# Altium footprint library Connector_FFC-FPC.PcbLib: 184 footprints (part 4 of 12)
Each footprint in its own frame and in the unit in brackets; x right, y up, seen from the top. Pads: shape width x height; smd on the part's side, far side on the other; paste and mask are expansions set on the pad; w line width, h text height; cw(c..) or ccw(c..) is an arc to the next point about the centre after c.
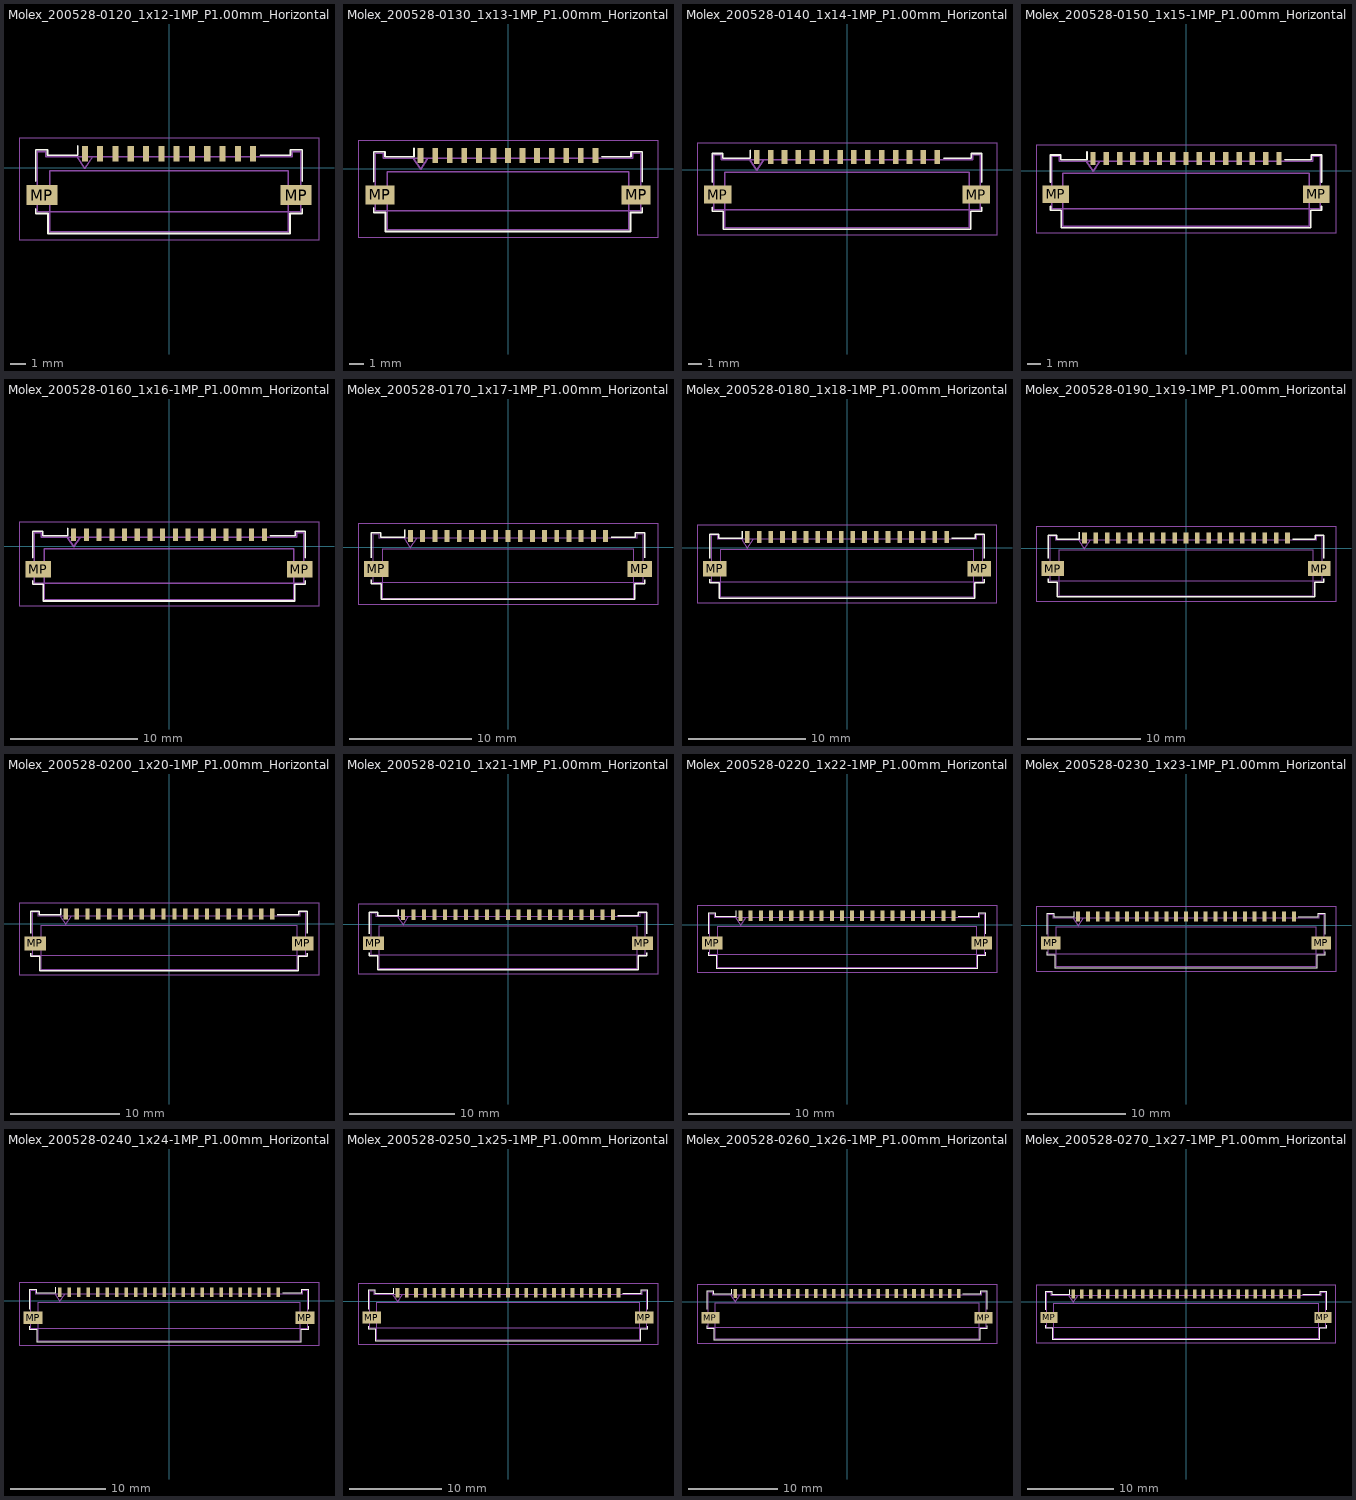
[diagram p3: the footprints below, top view; thin cyan lines are the x and y axes]

## Molex_200528-0120_1x12-1MP_P1.00mm_Horizontal [mm]
pads (14):
  rect 0.4x1 smd: 1(-5.5,0.91) 2(-4.5,0.91) 3(-3.5,0.91) 4(-2.5,0.91) 5(-1.5,0.91) 6(-0.5,0.91) 7(0.5,0.91) 8(1.5,0.91) 9(2.5,0.91) 10(3.5,0.91) 11(4.5,0.91) 12(5.5,0.91)
  rect 2x1.3 smd: MP(-8.3,-1.79) MP(8.3,-1.79)
F.SilkS:
  lines w0.12: -8.71,-2.7 -8.71,-3 -7.91,-3 -7.91,-4.3 7.91,-4.3 7.91,-3 8.71,-3 8.71,-2.7 ; -8.71,-0.88 -8.71,1.17 -7.94,1.17 -7.94,0.82 -5.96,0.82 -5.96,1.41 ; 5.96,0.82 7.94,0.82 7.94,1.17 8.71,1.17 8.71,-0.88
F.CrtYd:
  lines w0.05: -9.8,-4.69 -9.8,1.91 9.8,1.91 9.8,-4.69 -9.8,-4.69
F.Fab:
  lines w0.1: -6,0.71 -5.5,-0.04 -5,0.71 ; -8.6,-2.89 8.6,-2.89 8.6,1.06 8.05,1.06 8.05,0.71 -8.05,0.71 -8.05,1.06 -8.6,1.06 -8.6,-2.89 ; -7.8,-4.19 7.8,-4.19 7.8,-0.19 -7.8,-0.19 -7.8,-4.19
  text "'.Designator'" at -4.047,-2.23 h1

## Molex_200528-0130_1x13-1MP_P1.00mm_Horizontal [mm]
pads (15):
  rect 0.4x1 smd: 1(-6,0.91) 2(-5,0.91) 3(-4,0.91) 4(-3,0.91) 5(-2,0.91) 6(-1,0.91) 7(0,0.91) 8(1,0.91) 9(2,0.91) 10(3,0.91) 11(4,0.91) 12(5,0.91) 13(6,0.91)
  rect 2x1.3 smd: MP(-8.8,-1.79) MP(8.8,-1.79)
F.SilkS:
  lines w0.12: -9.21,-2.7 -9.21,-3 -8.41,-3 -8.41,-4.3 8.41,-4.3 8.41,-3 9.21,-3 9.21,-2.7 ; -9.21,-0.88 -9.21,1.17 -8.44,1.17 -8.44,0.82 -6.46,0.82 -6.46,1.41 ; 6.46,0.82 8.44,0.82 8.44,1.17 9.21,1.17 9.21,-0.88
F.CrtYd:
  lines w0.05: -10.3,-4.69 -10.3,1.91 10.3,1.91 10.3,-4.69 -10.3,-4.69
F.Fab:
  lines w0.1: -6.5,0.71 -6,-0.04 -5.5,0.71 ; -9.1,-2.89 -9.1,1.06 -8.55,1.06 -8.55,0.71 8.55,0.71 8.55,1.06 9.1,1.06 9.1,-2.89 -9.1,-2.89 ; -8.3,-4.19 -8.3,-0.19 8.3,-0.19 8.3,-4.19 -8.3,-4.19
  text "'.Designator'" at -4.047,-2.23 h1

## Molex_200528-0140_1x14-1MP_P1.00mm_Horizontal [mm]
pads (16):
  rect 0.4x1 smd: 1(-6.5,0.91) 2(-5.5,0.91) 3(-4.5,0.91) 4(-3.5,0.91) 5(-2.5,0.91) 6(-1.5,0.91) 7(-0.5,0.91) 8(0.5,0.91) 9(1.5,0.91) 10(2.5,0.91) 11(3.5,0.91) 12(4.5,0.91) 13(5.5,0.91) 14(6.5,0.91)
  rect 2x1.3 smd: MP(-9.3,-1.79) MP(9.3,-1.79)
F.SilkS:
  lines w0.12: -9.71,-2.7 -9.71,-3 -8.91,-3 -8.91,-4.3 8.91,-4.3 8.91,-3 9.71,-3 9.71,-2.7 ; -9.71,-0.88 -9.71,1.17 -8.94,1.17 -8.94,0.82 -6.96,0.82 -6.96,1.41 ; 6.96,0.82 8.94,0.82 8.94,1.17 9.71,1.17 9.71,-0.88
F.CrtYd:
  lines w0.05: -10.8,-4.69 -10.8,1.91 10.8,1.91 10.8,-4.69 -10.8,-4.69
F.Fab:
  lines w0.1: -7,0.71 -6.5,-0.04 -6,0.71 ; -9.6,-2.89 -9.6,1.06 -9.05,1.06 -9.05,0.71 9.05,0.71 9.05,1.06 9.6,1.06 9.6,-2.89 -9.6,-2.89 ; -8.8,-4.19 -8.8,-0.19 8.8,-0.19 8.8,-4.19 -8.8,-4.19
  text "'.Designator'" at -4.047,-2.23 h1

## Molex_200528-0150_1x15-1MP_P1.00mm_Horizontal [mm]
pads (17):
  rect 0.4x1 smd: 1(-7,0.91) 2(-6,0.91) 3(-5,0.91) 4(-4,0.91) 5(-3,0.91) 6(-2,0.91) 7(-1,0.91) 8(0,0.91) 9(1,0.91) 10(2,0.91) 11(3,0.91) 12(4,0.91) 13(5,0.91) 14(6,0.91) 15(7,0.91)
  rect 2x1.3 smd: MP(-9.8,-1.79) MP(9.8,-1.79)
F.SilkS:
  lines w0.12: -10.21,-2.7 -10.21,-3 -9.41,-3 -9.41,-4.3 9.41,-4.3 9.41,-3 10.21,-3 10.21,-2.7 ; -10.21,-0.88 -10.21,1.17 -9.44,1.17 -9.44,0.82 -7.46,0.82 -7.46,1.41 ; 7.46,0.82 9.44,0.82 9.44,1.17 10.21,1.17 10.21,-0.88
F.CrtYd:
  lines w0.05: -11.3,-4.69 11.3,-4.69 11.3,1.91 -11.3,1.91 -11.3,-4.69
F.Fab:
  lines w0.1: -7.5,0.71 -7,-0.04 -6.5,0.71 ; -10.1,-2.89 10.1,-2.89 10.1,1.06 9.55,1.06 9.55,0.71 -9.55,0.71 -9.55,1.06 -10.1,1.06 -10.1,-2.89 ; -9.3,-4.19 9.3,-4.19 9.3,-0.19 -9.3,-0.19 -9.3,-4.19
  text "'.Designator'" at -4.047,-2.23 h1

## Molex_200528-0160_1x16-1MP_P1.00mm_Horizontal [mm]
pads (18):
  rect 0.4x1 smd: 1(-7.5,0.91) 2(-6.5,0.91) 3(-5.5,0.91) 4(-4.5,0.91) 5(-3.5,0.91) 6(-2.5,0.91) 7(-1.5,0.91) 8(-0.5,0.91) 9(0.5,0.91) 10(1.5,0.91) 11(2.5,0.91) 12(3.5,0.91) 13(4.5,0.91) 14(5.5,0.91) 15(6.5,0.91) 16(7.5,0.91)
  rect 2x1.3 smd: MP(-10.3,-1.79) MP(10.3,-1.79)
F.SilkS:
  lines w0.12: -10.71,-2.7 -10.71,-3 -9.91,-3 -9.91,-4.3 9.91,-4.3 9.91,-3 10.71,-3 10.71,-2.7 ; -10.71,-0.88 -10.71,1.17 -9.94,1.17 -9.94,0.82 -7.96,0.82 -7.96,1.41 ; 7.96,0.82 9.94,0.82 9.94,1.17 10.71,1.17 10.71,-0.88
F.CrtYd:
  lines w0.05: -11.8,-4.69 -11.8,1.91 11.8,1.91 11.8,-4.69 -11.8,-4.69
F.Fab:
  lines w0.1: -8,0.71 -7.5,-0.04 -7,0.71 ; -10.6,-2.89 10.6,-2.89 10.6,1.06 10.05,1.06 10.05,0.71 -10.05,0.71 -10.05,1.06 -10.6,1.06 -10.6,-2.89 ; -9.8,-4.19 9.8,-4.19 9.8,-0.19 -9.8,-0.19 -9.8,-4.19
  text "'.Designator'" at -4.047,-2.23 h1

## Molex_200528-0170_1x17-1MP_P1.00mm_Horizontal [mm]
pads (19):
  rect 0.4x1 smd: 1(-8,0.91) 2(-7,0.91) 3(-6,0.91) 4(-5,0.91) 5(-4,0.91) 6(-3,0.91) 7(-2,0.91) 8(-1,0.91) 9(0,0.91) 10(1,0.91) 11(2,0.91) 12(3,0.91) 13(4,0.91) 14(5,0.91) 15(6,0.91) 16(7,0.91) 17(8,0.91)
  rect 2x1.3 smd: MP(-10.8,-1.79) MP(10.8,-1.79)
F.SilkS:
  lines w0.12: -11.21,-2.7 -11.21,-3 -10.41,-3 -10.41,-4.3 10.41,-4.3 10.41,-3 11.21,-3 11.21,-2.7 ; -11.21,-0.88 -11.21,1.17 -10.44,1.17 -10.44,0.82 -8.46,0.82 -8.46,1.41 ; 8.46,0.82 10.44,0.82 10.44,1.17 11.21,1.17 11.21,-0.88
F.CrtYd:
  lines w0.05: -12.3,-4.69 12.3,-4.69 12.3,1.91 -12.3,1.91 -12.3,-4.69
F.Fab:
  lines w0.1: -8.5,0.71 -8,-0.04 -7.5,0.71 ; -11.1,-2.89 -11.1,1.06 -10.55,1.06 -10.55,0.71 10.55,0.71 10.55,1.06 11.1,1.06 11.1,-2.89 -11.1,-2.89 ; -10.3,-4.19 -10.3,-0.19 10.3,-0.19 10.3,-4.19 -10.3,-4.19
  text "'.Designator'" at -4.047,-2.23 h1

## Molex_200528-0180_1x18-1MP_P1.00mm_Horizontal [mm]
pads (20):
  rect 0.4x1 smd: 1(-8.5,0.91) 2(-7.5,0.91) 3(-6.5,0.91) 4(-5.5,0.91) 5(-4.5,0.91) 6(-3.5,0.91) 7(-2.5,0.91) 8(-1.5,0.91) 9(-0.5,0.91) 10(0.5,0.91) 11(1.5,0.91) 12(2.5,0.91) 13(3.5,0.91) 14(4.5,0.91) 15(5.5,0.91) 16(6.5,0.91) 17(7.5,0.91) 18(8.5,0.91)
  rect 2x1.3 smd: MP(-11.3,-1.79) MP(11.3,-1.79)
F.SilkS:
  lines w0.12: -11.71,-2.7 -11.71,-3 -10.91,-3 -10.91,-4.3 10.91,-4.3 10.91,-3 11.71,-3 11.71,-2.7 ; -11.71,-0.88 -11.71,1.17 -10.94,1.17 -10.94,0.82 -8.96,0.82 -8.96,1.41 ; 8.96,0.82 10.94,0.82 10.94,1.17 11.71,1.17 11.71,-0.88
F.CrtYd:
  lines w0.05: -12.8,-4.69 12.8,-4.69 12.8,1.91 -12.8,1.91 -12.8,-4.69
F.Fab:
  lines w0.1: -9,0.71 -8.5,-0.04 -8,0.71 ; -11.6,-2.89 -11.6,1.06 -11.05,1.06 -11.05,0.71 11.05,0.71 11.05,1.06 11.6,1.06 11.6,-2.89 -11.6,-2.89 ; -10.8,-4.19 -10.8,-0.19 10.8,-0.19 10.8,-4.19 -10.8,-4.19
  text "'.Designator'" at -4.047,-2.23 h1

## Molex_200528-0190_1x19-1MP_P1.00mm_Horizontal [mm]
pads (21):
  rect 0.4x1 smd: 1(-9,0.91) 2(-8,0.91) 3(-7,0.91) 4(-6,0.91) 5(-5,0.91) 6(-4,0.91) 7(-3,0.91) 8(-2,0.91) 9(-1,0.91) 10(0,0.91) 11(1,0.91) 12(2,0.91) 13(3,0.91) 14(4,0.91) 15(5,0.91) 16(6,0.91) 17(7,0.91) 18(8,0.91) 19(9,0.91)
  rect 2x1.3 smd: MP(-11.8,-1.79) MP(11.8,-1.79)
F.SilkS:
  lines w0.12: -12.21,-2.7 -12.21,-3 -11.41,-3 -11.41,-4.3 11.41,-4.3 11.41,-3 12.21,-3 12.21,-2.7 ; -12.21,-0.88 -12.21,1.17 -11.44,1.17 -11.44,0.82 -9.46,0.82 -9.46,1.41 ; 9.46,0.82 11.44,0.82 11.44,1.17 12.21,1.17 12.21,-0.88
F.CrtYd:
  lines w0.05: -13.3,-4.69 -13.3,1.91 13.3,1.91 13.3,-4.69 -13.3,-4.69
F.Fab:
  lines w0.1: -9.5,0.71 -9,-0.04 -8.5,0.71 ; -12.1,-2.89 12.1,-2.89 12.1,1.06 11.55,1.06 11.55,0.71 -11.55,0.71 -11.55,1.06 -12.1,1.06 -12.1,-2.89 ; -11.3,-4.19 -11.3,-0.19 11.3,-0.19 11.3,-4.19 -11.3,-4.19
  text "'.Designator'" at -4.047,-2.23 h1

## Molex_200528-0200_1x20-1MP_P1.00mm_Horizontal [mm]
pads (22):
  rect 0.4x1 smd: 1(-9.5,0.91) 2(-8.5,0.91) 3(-7.5,0.91) 4(-6.5,0.91) 5(-5.5,0.91) 6(-4.5,0.91) 7(-3.5,0.91) 8(-2.5,0.91) 9(-1.5,0.91) 10(-0.5,0.91) 11(0.5,0.91) 12(1.5,0.91) 13(2.5,0.91) 14(3.5,0.91) 15(4.5,0.91) 16(5.5,0.91) 17(6.5,0.91) 18(7.5,0.91) 19(8.5,0.91) 20(9.5,0.91)
  rect 2x1.3 smd: MP(-12.3,-1.79) MP(12.3,-1.79)
F.SilkS:
  lines w0.12: -12.71,-2.7 -12.71,-3 -11.91,-3 -11.91,-4.3 11.91,-4.3 11.91,-3 12.71,-3 12.71,-2.7 ; -12.71,-0.88 -12.71,1.17 -11.94,1.17 -11.94,0.82 -9.96,0.82 -9.96,1.41 ; 9.96,0.82 11.94,0.82 11.94,1.17 12.71,1.17 12.71,-0.88
F.CrtYd:
  lines w0.05: -13.8,-4.69 -13.8,1.91 13.8,1.91 13.8,-4.69 -13.8,-4.69
F.Fab:
  lines w0.1: -10,0.71 -9.5,-0.04 -9,0.71 ; -12.6,-2.89 -12.6,1.06 -12.05,1.06 -12.05,0.71 12.05,0.71 12.05,1.06 12.6,1.06 12.6,-2.89 -12.6,-2.89 ; -11.8,-4.19 -11.8,-0.19 11.8,-0.19 11.8,-4.19 -11.8,-4.19
  text "'.Designator'" at -4.047,-2.23 h1

## Molex_200528-0210_1x21-1MP_P1.00mm_Horizontal [mm]
pads (23):
  rect 0.4x1 smd: 1(-10,0.91) 2(-9,0.91) 3(-8,0.91) 4(-7,0.91) 5(-6,0.91) 6(-5,0.91) 7(-4,0.91) 8(-3,0.91) 9(-2,0.91) 10(-1,0.91) 11(0,0.91) 12(1,0.91) 13(2,0.91) 14(3,0.91) 15(4,0.91) 16(5,0.91) 17(6,0.91) 18(7,0.91) 19(8,0.91) 20(9,0.91) 21(10,0.91)
  rect 2x1.3 smd: MP(-12.8,-1.79) MP(12.8,-1.79)
F.SilkS:
  lines w0.12: -13.21,-2.7 -13.21,-3 -12.41,-3 -12.41,-4.3 12.41,-4.3 12.41,-3 13.21,-3 13.21,-2.7 ; -13.21,-0.88 -13.21,1.17 -12.44,1.17 -12.44,0.82 -10.46,0.82 -10.46,1.41 ; 10.46,0.82 12.44,0.82 12.44,1.17 13.21,1.17 13.21,-0.88
F.CrtYd:
  lines w0.05: -14.3,-4.69 -14.3,1.91 14.3,1.91 14.3,-4.69 -14.3,-4.69
F.Fab:
  lines w0.1: -10.5,0.71 -10,-0.04 -9.5,0.71 ; -13.1,-2.89 -13.1,1.06 -12.55,1.06 -12.55,0.71 12.55,0.71 12.55,1.06 13.1,1.06 13.1,-2.89 -13.1,-2.89 ; -12.3,-4.19 12.3,-4.19 12.3,-0.19 -12.3,-0.19 -12.3,-4.19
  text "'.Designator'" at -4.047,-2.23 h1

## Molex_200528-0220_1x22-1MP_P1.00mm_Horizontal [mm]
pads (24):
  rect 0.4x1 smd: 1(-10.5,0.91) 2(-9.5,0.91) 3(-8.5,0.91) 4(-7.5,0.91) 5(-6.5,0.91) 6(-5.5,0.91) 7(-4.5,0.91) 8(-3.5,0.91) 9(-2.5,0.91) 10(-1.5,0.91) 11(-0.5,0.91) 12(0.5,0.91) 13(1.5,0.91) 14(2.5,0.91) 15(3.5,0.91) 16(4.5,0.91) 17(5.5,0.91) 18(6.5,0.91) 19(7.5,0.91) 20(8.5,0.91) 21(9.5,0.91) 22(10.5,0.91)
  rect 2x1.3 smd: MP(-13.3,-1.79) MP(13.3,-1.79)
F.SilkS:
  lines w0.12: -13.71,-2.7 -13.71,-3 -12.91,-3 -12.91,-4.3 12.91,-4.3 12.91,-3 13.71,-3 13.71,-2.7 ; -13.71,-0.88 -13.71,1.17 -12.94,1.17 -12.94,0.82 -10.96,0.82 -10.96,1.41 ; 10.96,0.82 12.94,0.82 12.94,1.17 13.71,1.17 13.71,-0.88
F.CrtYd:
  lines w0.05: -14.8,-4.69 -14.8,1.91 14.8,1.91 14.8,-4.69 -14.8,-4.69
F.Fab:
  lines w0.1: -11,0.71 -10.5,-0.04 -10,0.71 ; -13.6,-2.89 13.6,-2.89 13.6,1.06 13.05,1.06 13.05,0.71 -13.05,0.71 -13.05,1.06 -13.6,1.06 -13.6,-2.89 ; -12.8,-4.19 12.8,-4.19 12.8,-0.19 -12.8,-0.19 -12.8,-4.19
  text "'.Designator'" at -4.047,-2.23 h1

## Molex_200528-0230_1x23-1MP_P1.00mm_Horizontal [mm]
pads (25):
  rect 0.4x1 smd: 1(-11,0.91) 2(-10,0.91) 3(-9,0.91) 4(-8,0.91) 5(-7,0.91) 6(-6,0.91) 7(-5,0.91) 8(-4,0.91) 9(-3,0.91) 10(-2,0.91) 11(-1,0.91) 12(0,0.91) 13(1,0.91) 14(2,0.91) 15(3,0.91) 16(4,0.91) 17(5,0.91) 18(6,0.91) 19(7,0.91) 20(8,0.91) 21(9,0.91) 22(10,0.91) 23(11,0.91)
  rect 2x1.3 smd: MP(-13.8,-1.79) MP(13.8,-1.79)
F.SilkS:
  lines w0.12: -14.21,-2.7 -14.21,-3 -13.41,-3 -13.41,-4.3 13.41,-4.3 13.41,-3 14.21,-3 14.21,-2.7 ; -14.21,-0.88 -14.21,1.17 -13.44,1.17 -13.44,0.82 -11.46,0.82 -11.46,1.41 ; 11.46,0.82 13.44,0.82 13.44,1.17 14.21,1.17 14.21,-0.88
F.CrtYd:
  lines w0.05: -15.3,-4.69 15.3,-4.69 15.3,1.91 -15.3,1.91 -15.3,-4.69
F.Fab:
  lines w0.1: -11.5,0.71 -11,-0.04 -10.5,0.71 ; -14.1,-2.89 -14.1,1.06 -13.55,1.06 -13.55,0.71 13.55,0.71 13.55,1.06 14.1,1.06 14.1,-2.89 -14.1,-2.89 ; -13.3,-4.19 13.3,-4.19 13.3,-0.19 -13.3,-0.19 -13.3,-4.19
  text "'.Designator'" at -4.047,-2.23 h1

## Molex_200528-0240_1x24-1MP_P1.00mm_Horizontal [mm]
pads (26):
  rect 0.4x1 smd: 1(-11.5,0.91) 2(-10.5,0.91) 3(-9.5,0.91) 4(-8.5,0.91) 5(-7.5,0.91) 6(-6.5,0.91) 7(-5.5,0.91) 8(-4.5,0.91) 9(-3.5,0.91) 10(-2.5,0.91) 11(-1.5,0.91) 12(-0.5,0.91) 13(0.5,0.91) 14(1.5,0.91) 15(2.5,0.91) 16(3.5,0.91) 17(4.5,0.91) 18(5.5,0.91) 19(6.5,0.91) 20(7.5,0.91) 21(8.5,0.91) 22(9.5,0.91) 23(10.5,0.91) 24(11.5,0.91)
  rect 2x1.3 smd: MP(-14.3,-1.79) MP(14.3,-1.79)
F.SilkS:
  lines w0.12: -14.71,-2.7 -14.71,-3 -13.91,-3 -13.91,-4.3 13.91,-4.3 13.91,-3 14.71,-3 14.71,-2.7 ; -14.71,-0.88 -14.71,1.17 -13.94,1.17 -13.94,0.82 -11.96,0.82 -11.96,1.41 ; 11.96,0.82 13.94,0.82 13.94,1.17 14.71,1.17 14.71,-0.88
F.CrtYd:
  lines w0.05: -15.8,-4.69 -15.8,1.91 15.8,1.91 15.8,-4.69 -15.8,-4.69
F.Fab:
  lines w0.1: -12,0.71 -11.5,-0.04 -11,0.71 ; -14.6,-2.89 14.6,-2.89 14.6,1.06 14.05,1.06 14.05,0.71 -14.05,0.71 -14.05,1.06 -14.6,1.06 -14.6,-2.89 ; -13.8,-4.19 13.8,-4.19 13.8,-0.19 -13.8,-0.19 -13.8,-4.19
  text "'.Designator'" at -4.047,-2.23 h1

## Molex_200528-0250_1x25-1MP_P1.00mm_Horizontal [mm]
pads (27):
  rect 0.4x1 smd: 1(-12,0.91) 2(-11,0.91) 3(-10,0.91) 4(-9,0.91) 5(-8,0.91) 6(-7,0.91) 7(-6,0.91) 8(-5,0.91) 9(-4,0.91) 10(-3,0.91) 11(-2,0.91) 12(-1,0.91) 13(0,0.91) 14(1,0.91) 15(2,0.91) 16(3,0.91) 17(4,0.91) 18(5,0.91) 19(6,0.91) 20(7,0.91) 21(8,0.91) 22(9,0.91) 23(10,0.91) 24(11,0.91) 25(12,0.91)
  rect 2x1.3 smd: MP(-14.8,-1.79) MP(14.8,-1.79)
F.SilkS:
  lines w0.12: -15.21,-2.7 -15.21,-3 -14.41,-3 -14.41,-4.3 14.41,-4.3 14.41,-3 15.21,-3 15.21,-2.7 ; -15.21,-0.88 -15.21,1.17 -14.44,1.17 -14.44,0.82 -12.46,0.82 -12.46,1.41 ; 12.46,0.82 14.44,0.82 14.44,1.17 15.21,1.17 15.21,-0.88
F.CrtYd:
  lines w0.05: -16.3,-4.69 -16.3,1.91 16.3,1.91 16.3,-4.69 -16.3,-4.69
F.Fab:
  lines w0.1: -12.5,0.71 -12,-0.04 -11.5,0.71 ; -15.1,-2.89 -15.1,1.06 -14.55,1.06 -14.55,0.71 14.55,0.71 14.55,1.06 15.1,1.06 15.1,-2.89 -15.1,-2.89 ; -14.3,-4.19 -14.3,-0.19 14.3,-0.19 14.3,-4.19 -14.3,-4.19
  text "'.Designator'" at -4.047,-2.23 h1

## Molex_200528-0260_1x26-1MP_P1.00mm_Horizontal [mm]
pads (28):
  rect 0.4x1 smd: 1(-12.5,0.91) 2(-11.5,0.91) 3(-10.5,0.91) 4(-9.5,0.91) 5(-8.5,0.91) 6(-7.5,0.91) 7(-6.5,0.91) 8(-5.5,0.91) 9(-4.5,0.91) 10(-3.5,0.91) 11(-2.5,0.91) 12(-1.5,0.91) 13(-0.5,0.91) 14(0.5,0.91) 15(1.5,0.91) 16(2.5,0.91) 17(3.5,0.91) 18(4.5,0.91) 19(5.5,0.91) 20(6.5,0.91) 21(7.5,0.91) 22(8.5,0.91) 23(9.5,0.91) 24(10.5,0.91) 25(11.5,0.91) 26(12.5,0.91)
  rect 2x1.3 smd: MP(-15.3,-1.79) MP(15.3,-1.79)
F.SilkS:
  lines w0.12: -15.71,-2.7 -15.71,-3 -14.91,-3 -14.91,-4.3 14.91,-4.3 14.91,-3 15.71,-3 15.71,-2.7 ; -15.71,-0.88 -15.71,1.17 -14.94,1.17 -14.94,0.82 -12.96,0.82 -12.96,1.41 ; 12.96,0.82 14.94,0.82 14.94,1.17 15.71,1.17 15.71,-0.88
F.CrtYd:
  lines w0.05: -16.8,-4.69 16.8,-4.69 16.8,1.91 -16.8,1.91 -16.8,-4.69
F.Fab:
  lines w0.1: -13,0.71 -12.5,-0.04 -12,0.71 ; -15.6,-2.89 -15.6,1.06 -15.05,1.06 -15.05,0.71 15.05,0.71 15.05,1.06 15.6,1.06 15.6,-2.89 -15.6,-2.89 ; -14.8,-4.19 -14.8,-0.19 14.8,-0.19 14.8,-4.19 -14.8,-4.19
  text "'.Designator'" at -4.047,-2.23 h1

## Molex_200528-0270_1x27-1MP_P1.00mm_Horizontal [mm]
pads (29):
  rect 0.4x1 smd: 1(-13,0.91) 2(-12,0.91) 3(-11,0.91) 4(-10,0.91) 5(-9,0.91) 6(-8,0.91) 7(-7,0.91) 8(-6,0.91) 9(-5,0.91) 10(-4,0.91) 11(-3,0.91) 12(-2,0.91) 13(-1,0.91) 14(0,0.91) 15(1,0.91) 16(2,0.91) 17(3,0.91) 18(4,0.91) 19(5,0.91) 20(6,0.91) 21(7,0.91) 22(8,0.91) 23(9,0.91) 24(10,0.91) 25(11,0.91) 26(12,0.91) 27(13,0.91)
  rect 2x1.3 smd: MP(-15.8,-1.79) MP(15.8,-1.79)
F.SilkS:
  lines w0.12: -16.21,-2.7 -16.21,-3 -15.41,-3 -15.41,-4.3 15.41,-4.3 15.41,-3 16.21,-3 16.21,-2.7 ; -16.21,-0.88 -16.21,1.17 -15.44,1.17 -15.44,0.82 -13.46,0.82 -13.46,1.41 ; 13.46,0.82 15.44,0.82 15.44,1.17 16.21,1.17 16.21,-0.88
F.CrtYd:
  lines w0.05: -17.3,-4.69 -17.3,1.91 17.3,1.91 17.3,-4.69 -17.3,-4.69
F.Fab:
  lines w0.1: -13.5,0.71 -13,-0.04 -12.5,0.71 ; -16.1,-2.89 16.1,-2.89 16.1,1.06 15.55,1.06 15.55,0.71 -15.55,0.71 -15.55,1.06 -16.1,1.06 -16.1,-2.89 ; -15.3,-4.19 15.3,-4.19 15.3,-0.19 -15.3,-0.19 -15.3,-4.19
  text "'.Designator'" at -4.047,-2.23 h1